# Altium schematic symbol library C430C106K3R5TA.SchLib: 1 symbol
Pins are listed as number, name and electrical type; pins without a type are passive.

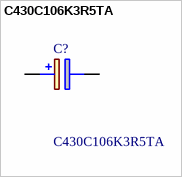
[diagram p0: symbol C430C106K3R5TA]

## C430C106K3R5TA
designator C?
AxiMax 400 Comm X7R, Ceramic, 10 uF, 10%, 25 VDC, 62.5 VDC, 125C, -55C, X7R, AxiMax, Commercial Standard, 10 % , 50 MOhms, 3.81mm, 6.1mm, 25.4mm, 0.51mm, 200, 80; Manufacturer_Name: KEMET; Mouser Part Number: *; Mouser Price/Stock: *; Manufacturer_Part_Number: C430C106K3R5TA; Datasheet Link: https://content.kemet.com/datasheets/KEM_C1041_AXIMAX_X7R.pdf
footprint CAPPA2134W54L610D381
pins: 1 +, 2 -